# EAGLE library part AT49F040A (library memory-atmel)
FLASH MEMORY
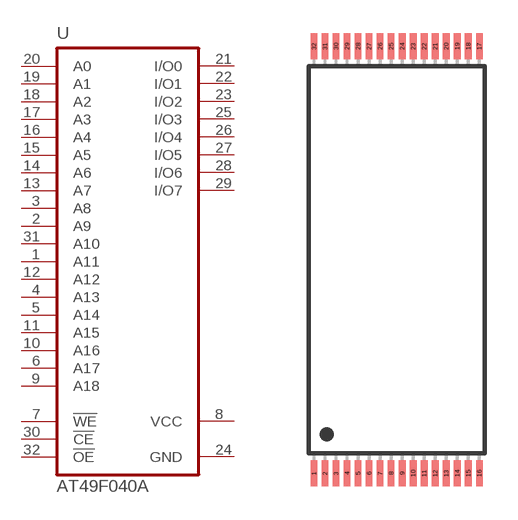
[diagram p1: symbol with the pads of TSOP32; footprint TSOP32]

Designator prefix U

## AT49F040ATSOP32  [TSOP32]
1  A11  in
2  A9  in
3  A8  in
4  A13  in
5  A14  in
6  A17  in
7  !WE!  in
8  VCC  pwr
9  A18  in
10  A16  in
11  A15  in
12  A12  in
13  A7  in
14  A6  in
15  A5  in
16  A4  in
17  A3  in
18  A2  in
19  A1  in
20  A0  in
21  I/O0
22  I/O1
23  I/O2
24  GND  pwr
25  I/O3
26  I/O4
27  I/O5
28  I/O6
29  I/O7
30  !CE!  in
31  A10
32  !OE!  in

## Footprint TSOP32 (pad centres in mm)
TSOP32 thin small outline package
smd 0.3 x 1.2: 1 -3.75,-9.7; 2 -3.25,-9.7; 3 -2.75,-9.7; 4 -2.25,-9.7; 5 -1.75,-9.7; 6 -1.25,-9.7; 7 -0.75,-9.7; 8 -0.25,-9.7; 9 0.25,-9.7; 10 0.75,-9.7; 11 1.25,-9.7; 12 1.75,-9.7; 13 2.25,-9.7; 14 2.75,-9.7; 15 3.25,-9.7; 16 3.75,-9.7; 17 3.75,9.7; 18 3.25,9.7; 19 2.75,9.7; 20 2.25,9.7; 21 1.75,9.7; 22 1.25,9.7; 23 0.75,9.7; 24 0.25,9.7; 25 -0.25,9.7; 26 -0.75,9.7; 27 -1.25,9.7; 28 -1.75,9.7; 29 -2.25,9.7; 30 -2.75,9.7; 31 -3.25,9.7; 32 -3.75,9.7